# EAGLE library part 6620XX21024_66200821024 (library Wurth_Connectors_WR-MPC3)
WR-MPC3 3.00 mm Male Header Dual Row Right Angled with Plastic Pegs - THT - Selective Gold Kind Properties Pitch 3 mm Rows Dual Type Right Angled Operating Temperature -40 up to +105 °C Durability 75 Mating cycles Material Properties Insulator Material LCP Insulator Color Black Insulator Flammability Rating UL94 V-0 Pin Material Copper Alloy Pin Plating Selective Gold Electrical Properties IR 5 A Working Voltage 250 V (AC) Withstanding Voltage 1500 V (AC) Contact Resistance 10 mΩ Packaging Properties Packaging Tube Certification UL Approval E323964 <https://www.we-online.com/components/media/o727037v209%206620xx21022_Multi-Parts.jpg> Details see: www.we-online.com/components/products/WR-MPC3_3_00MM_MALE_HEADER_DUAL_ROW_RIGHT_ANGLED_WITH_PLASTIC_PEGS_THT_SELECTIVE_GOLD <www.we-online.com/catalog/WR-MPC3_3_00MM_MALE_HEADER_DUAL_ROW_RIGHT_ANGLED_WITH_PLASTIC_PEGS_THT_SELECTIVE_GOLD/?utm_source=eagle_model&utm_medium=description_link&utm_campaign=eisos_eagle> Created by Ella Wu 2023-10-12 2023 (C) Würth Elektronik
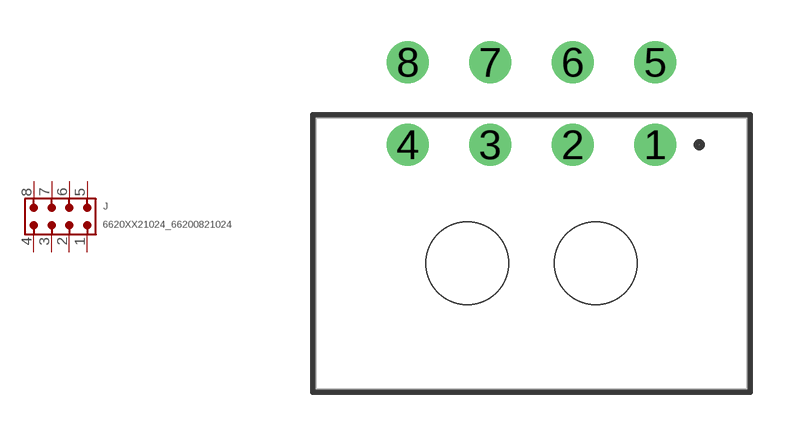
[diagram p139: symbol with the pads of 66200821024; footprint 66200821024]

Designator prefix J

## 6620XX21024_66200821024 (CONTACT-RESISTANCE: 10Ohm; DATASHEET-URL: https://www.we-online.com/redexpert/spec/66200821024?ae; GENDER: Male; IR: 5A; MOUNT: THT; PART-NUMBER: 66200821024; PINS: 8; PITCH: 3mm; ROWS: Dual; TOL-R: max.; TYPE: Right Angled; VALUE: 66200821024; WORKING-VOLTAGE: 250V(AC))  [66200821024]
1  1  pas
2  2  pas
3  3  pas
4  4  pas
5  5  pas
6  6  pas
7  7  pas
8  8  pas

## Footprint 66200821024 (pad centres in mm)
WR-MPC3 3.00 mm Male Header Dual Row Right Angled with Plastic Pegs - THT - Selective Gold 8 Pins
drill 1.02: 1 4.5,3.95; 2 1.5,3.95; 3 -1.5,3.95; 4 -4.5,3.95; 5 4.5,6.95; 6 1.5,6.95; 7 -1.5,6.95; 8 -4.5,6.95
hole 3 at 2.34,-0.35
hole 3 at -2.34,-0.35